# EAGLE library part PCB_CONNECTOR_10_PIN (library Pressure_Pad)
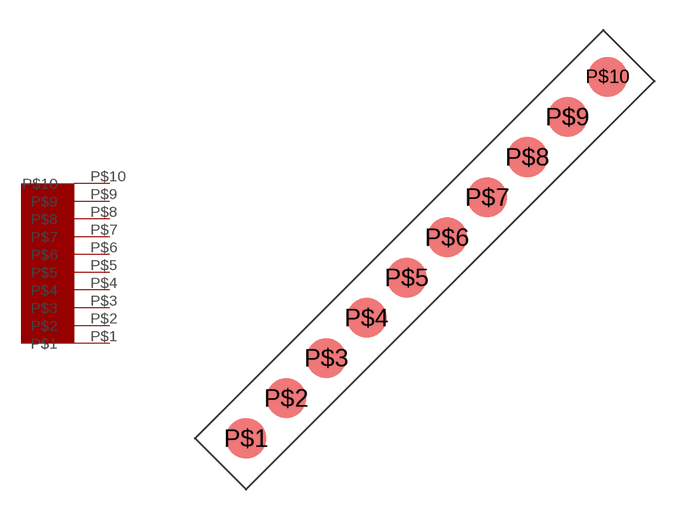
[diagram p1: symbol with the pads of PCB_CONNECTOR_10_PIN; footprint PCB_CONNECTOR_10_PIN]

Designator prefix -

## PCB_CONNECTOR_10_PIN  [PCB_CONNECTOR_10_PIN]
P$1  P$1
P$2  P$2
P$3  P$3
P$4  P$4
P$5  P$5
P$6  P$6
P$7  P$7
P$8  P$8
P$9  P$9
P$10  P$10

## Footprint PCB_CONNECTOR_10_PIN (pad centres in mm)
smd 2 x 2: P$1 0,0; P$2 2,2; P$3 4,4; P$4 6,6; P$5 8,8; P$6 10,10; P$7 12,12; P$8 14,14; P$9 16,16; P$10 18,18